# Altium footprint library GCT_USB4085-GF-A.PcbLib: 1 footprints
Each footprint in its own frame and in the unit in brackets; x right, y up, seen from the top. Pads: shape width x height; smd on the part's side, far side on the other; paste and mask are expansions set on the pad; w line width, h text height; cw(c..) or ccw(c..) is an arc to the next point about the centre after c.
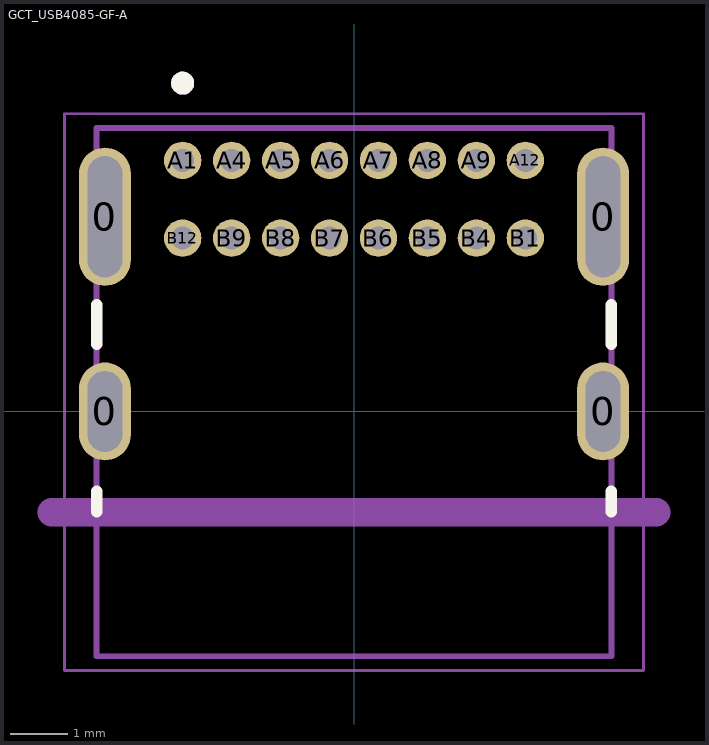
[diagram p0: the footprint, top view; thin cyan lines are the x and y axes]

## GCT_USB4085-GF-A [mm]
height 3.16
pads (20):
  oval 0.9x1.7 hole 0.6 slot 1.4 at 90 deg: 0(-4.325,0) 0(4.325,0)
  oval 0.9x2.4 hole 0.6 slot 2.1 at 90 deg: 0(-4.325,3.38) 0(4.325,3.38)
  round 0.65 hole 0.4: A1(-2.975,4.36) A4(-2.125,4.36) A5(-1.275,4.36) A6(-0.425,4.36) A7(0.425,4.36) A8(1.275,4.36) A9(2.125,4.36) A12(2.975,4.36) B1(2.975,3.01) B4(2.125,3.01) B5(1.275,3.01) B6(0.425,3.01) B7(-0.425,3.01) B8(-1.275,3.01) B9(-2.125,3.01) B12(-2.975,3.01)
Top Overlay:
  circle w0.2: c-2.975,5.7 r0.1
  lines w0.2: -4.47,-1.74 -4.47,-1.39 ; -4.47,1.17 -4.47,1.85 ; 4.47,-1.74 4.47,-1.39 ; 4.47,1.17 4.47,1.85
assy:
  circle w0.2: c-2.975,5.7 r0.1
  lines w0.1: -4.47,-4.25 -4.47,-1.74 -4.47,4.92 4.47,4.92 4.47,-4.25 -4.47,-4.25
Board:
  lines w0.5: -5.25,-1.75 5.25,-1.75
courtyard:
  lines w0.05: -5.025,-4.5 -5.025,5.17 5.025,5.17 5.025,-4.5 -5.025,-4.5
3D body "step_temp.STEP": height 3.46, standoff -2.1, extent -4.47,-4.25 4.47,4.92